# EAGLE library part IR2101 (library HelaTronix - IC Special Functions)
Mosfet and IGBT Gate Driver
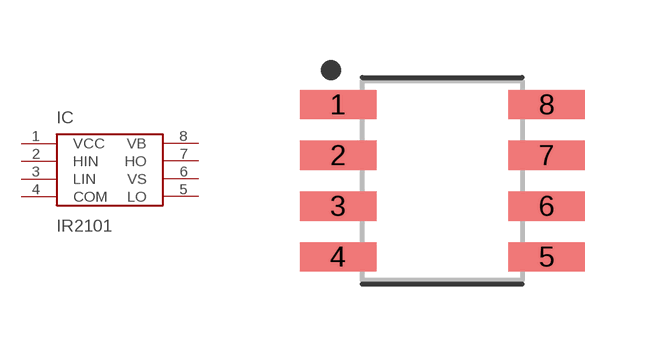
[diagram p3: symbol with the pads of 8-LEAD-SOIC; footprint 8-LEAD-SOIC]

Designator prefix IC

## IR2101 (LCSC#: C2956; LCSC_LINK: https://lcsc.com/product-detail/Gate-Drive-ICs_Infineon-Technologies-IR2101STRPBF_C2956.html; MANUFACTURER: Infineon Technologies; MFR#: IR2101STRPBF)  [8-LEAD-SOIC]
1  VCC
2  HIN
3  LIN
4  COM
5  LO
6  VS
7  HO
8  VB

## Footprint 8-LEAD-SOIC (pad centres in mm)
8-SOIC, 1.27 mm pitch, 6.30 mm span, 4.90 X 3.90 X 1.75 mm body 8-pin SOIC package with 1.27 mm pitch, 6.30 mm span with body size 4.90 X 3.90 X 1.75 mm
smd 1.914 x 0.732: 1 -2.608,1.905; 2 -2.608,0.635; 3 -2.608,-0.635; 4 -2.608,-1.905; 5 2.608,-1.905; 6 2.608,-0.635; 7 2.608,0.635; 8 2.608,1.905